# EAGLE library part 4N25 (library 4N25)
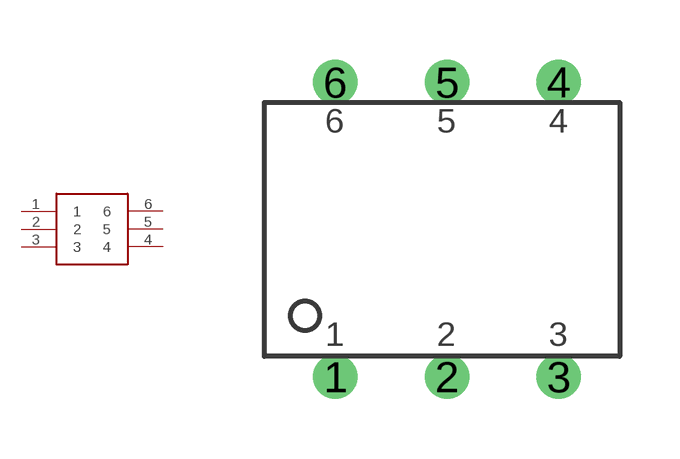
[diagram p0: symbol with the pads of 4N25; footprint 4N25]

Designator prefix 4N25

## 4N25  [4N25]
1  1
2  2
3  3
4  4
5  5
6  6

## Footprint 4N25 (pad centres in mm)
drill 0.6: 1 -2.54,-3.556; 2 0.254,-3.556; 3 3.048,-3.556; 4 3.048,3.81; 5 0.254,3.81; 6 -2.54,3.81